# EAGLE library part ADL5387 (library analogdevices-demodulators)
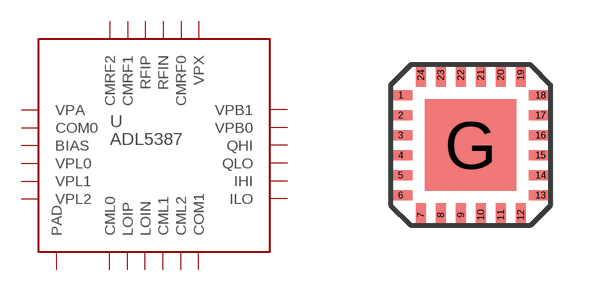
[diagram p0: symbol with the pads of LFCSP_VQ-24; footprint LFCSP_VQ-24]

Designator prefix -

## ADL5387  [LFCSP_VQ-24]
1  VPA
2  COM0
3  BIAS
4  VPL0
5  VPL1
6  VPL2
7  CML0
8  LOIP
9  LOIN
10  CML1
11  CML2
12  COM1
13  ILO
14  IHI
15  QLO
16  QHI
17  VPB0
18  VPB1
19  VPX
20  CMRF0
21  RFIN
22  RFIP
23  CMRF1
24  CMRF2
G  PAD

## Footprint LFCSP_VQ-24 (pad centres in mm)
smd 0.6 x 0.25: 1 -1.75,1.25; 2 -1.75,0.75; 3 -1.75,0.25; 4 -1.75,-0.25; 5 -1.75,-0.75; 6 -1.75,-1.25; 13 1.75,-1.25; 14 1.75,-0.75; 15 1.75,-0.25; 16 1.75,0.25; 17 1.75,0.75; 18 1.75,1.25
smd 0.25 x 0.6: 7 -1.25,-1.75; 8 -0.75,-1.75; 9 -0.25,-1.75; 10 0.25,-1.75; 11 0.75,-1.75; 12 1.25,-1.75; 19 1.25,1.75; 20 0.75,1.75; 21 0.25,1.75; 22 -0.25,1.75; 23 -0.75,1.75; 24 -1.25,1.75
smd 2.3 x 2.3: G 0,0